# Altium schematic symbol library lcdcontroll.SchLib: 2 symbols
Pins are listed as number, name and electrical type; pins without a type are passive.

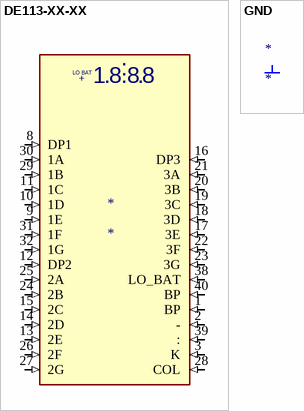
[diagram p0: symbols DE113-XX-XX to GND]

## DE113-XX-XX
designator *
pins: 1 BP (in), 2 - (in), 3 K (in), 4 NC (in) hidden, 5 NC (in) hidden, 6 NC (in) hidden, 7 NC (in) hidden, 8 DP1 (in), 9 1E (in), 10 1D (in), 11 1C (in), 12 DP2 (in), 13 2E (in), 14 2D (in), 15 2C (in), 16 DP3 (in), 17 3E (in), 18 3D (in), 19 3C (in), 20 3B (in), 21 3A (in), 22 3F (in), 23 3G (in), 24 2B (in), 25 2A (in), 26 2F (in), 27 2G (in), 28 COL (in), 29 1B (in), 30 1A (in), 31 1F (in), 32 1G (in), 33 NC (in) hidden, 34 NC (in) hidden, 35 NC (in) hidden, 36 NC (in) hidden, 37 NC (in) hidden, 38 LO_BAT (in), 39 : (in), 40 BP (in)
text: LO BAT; +; .

## GND
designator *
pins: 1 GND (power) hidden